# Altium footprint library CAP_EL_6.3_5.5.PcbLib: 1 footprints
Each footprint in its own frame and in the unit in brackets; x right, y up, seen from the top. Pads: shape width x height; smd on the part's side, far side on the other; paste and mask are expansions set on the pad; w line width, h text height; cw(c..) or ccw(c..) is an arc to the next point about the centre after c.
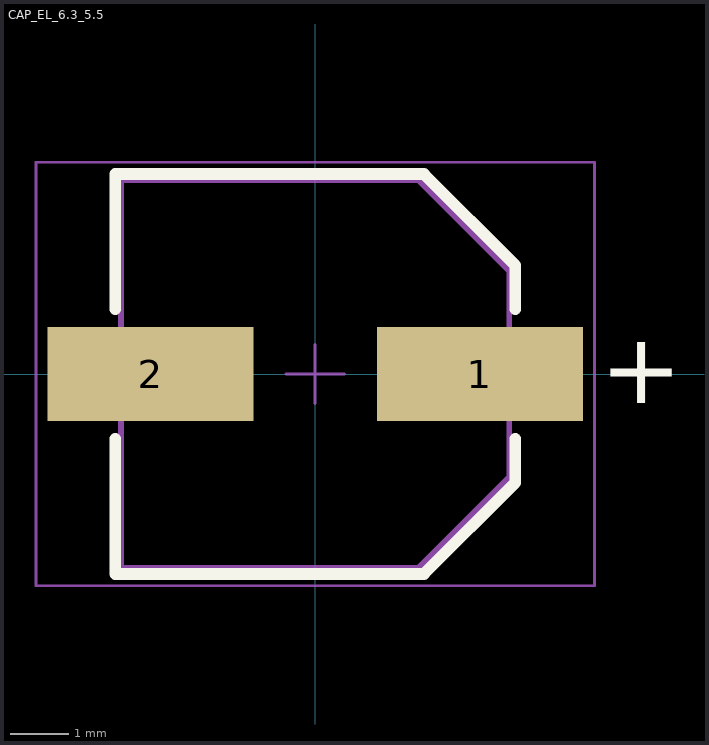
[diagram p0: the footprint, top view; thin cyan lines are the x and y axes]

## CAP_EL_6.3_5.5 [mm]
pads (2):
  rect 3.5x1.6 smd: 1(2.8,0) 2(-2.8,0)
Top Overlay:
  lines w0.2: -3.4,-1.1 -3.4,-3.4 1.85,-3.4 3.4,-1.85 3.4,-1.1 ; -3.4,1.1 -3.4,3.4 1.85,3.4 3.4,1.85 3.4,1.1
  text "+" at 4.85,-0.5 h1.22
Top Designator:
  text ".Designator" at -7.498,-0.5 h1.5
Top Component Outline:
  lines w0.1: -3.3,-3.3 1.75,-3.3 3.3,-1.75 3.3,1.75 1.75,3.3 -3.3,3.3 -3.3,-3.3
Top 3D Body:
  lines w0.1: -3.3,-3.3 -3.3,3.3 1.75,3.3 3.3,1.75 3.3,-1.75 1.75,-3.3 -3.3,-3.3
Top Courtyard:
  lines w0.05: -0.5,0 0.5,0 ; 0,-0.5 0,0.5 ; -4.75,-3.6 4.75,-3.6 4.75,3.6 -4.75,3.6 -4.75,-3.6
3D body "6.3x5.5x2.2.stp": height 5.5, standoff 0, extent -3.65,-3.3 3.65,3.3